# EAGLE library part J1006NOLED (library con-pulse-j1006)
PulseJack J1006F21 no leds
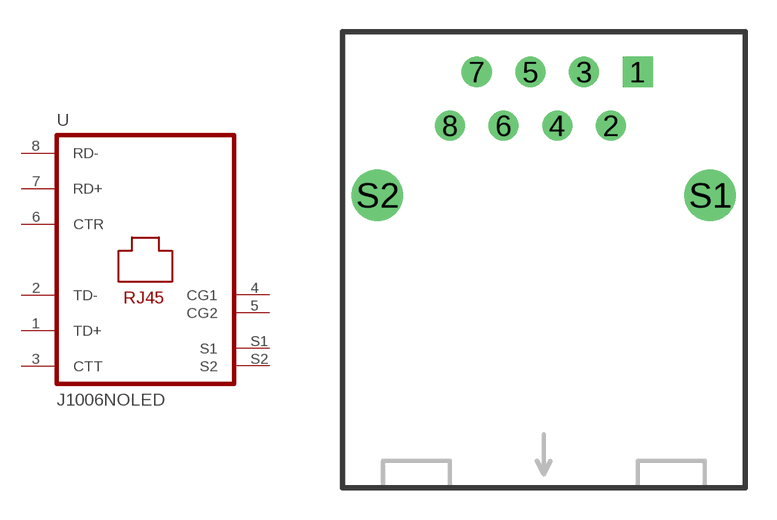
[diagram p2: symbol with the pads of PJ-NOLED; footprint PJ-NOLED]

Designator prefix -

## J1006NOLED  [PJ-NOLED]
1  TD+
2  TD-
3  CTT
4  CG1  pas
5  CG2  pas
6  CTR
7  RD+
8  RD-
S1  S1  pas
S2  S2  pas

## Footprint PJ-NOLED (pad centres in mm)
drill 0.914 square: 1 4.445,8.89
drill 0.914 round: 2 3.175,6.35; 3 1.905,8.89; 4 0.635,6.35; 5 -0.635,8.89; 6 -1.905,6.35; 7 -3.175,8.89; 8 -4.445,6.35
drill 1.626 round: S1 7.874,3.048; S2 -7.874,3.048